# Altium footprint library cpu.PcbLib: 8 footprints
Each footprint in its own frame and in the unit in brackets; x right, y up, seen from the top. Pads: shape width x height; smd on the part's side, far side on the other; paste and mask are expansions set on the pad; w line width, h text height; cw(c..) or ccw(c..) is an arc to the next point about the centre after c.
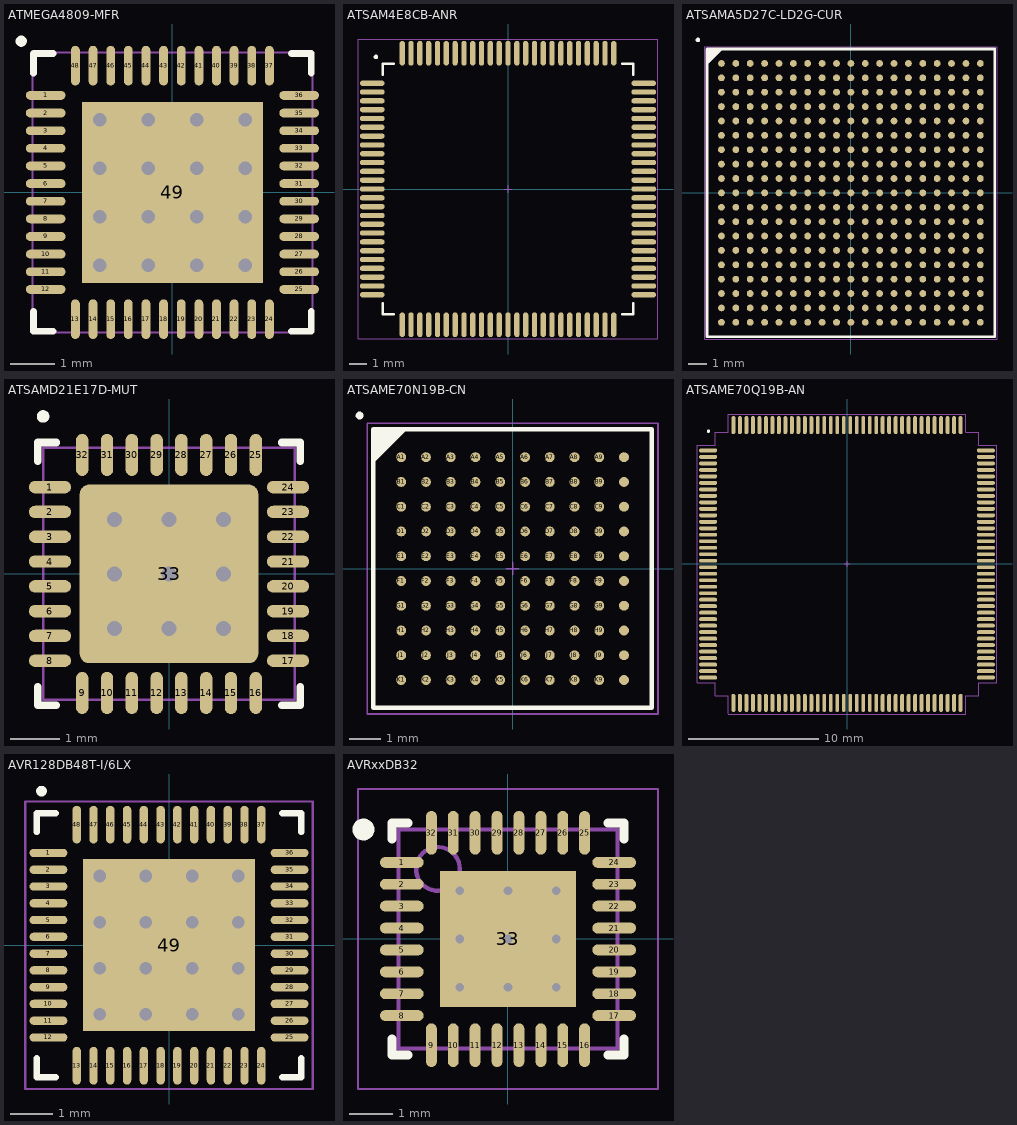
[diagram p0: the footprints below, top view; thin cyan lines are the x and y axes]

## ATMEGA4809-MFR [mm] "QFN, 48-Leads, Body 6.00x6.00mm, Pitch 0.40mm, Thermal Pad 4.10x4.10mm, IPC Medium Density"
height 0.9
pads (49):
  oval 0.9x0.2 smd: 1(-2.875,2.2) 2(-2.875,1.8) 3(-2.875,1.4) 4(-2.875,1) 5(-2.875,0.6) 6(-2.875,0.2) 7(-2.875,-0.2) 8(-2.875,-0.6) 9(-2.875,-1) 10(-2.875,-1.4) 11(-2.875,-1.8) 12(-2.875,-2.2) 25(2.875,-2.2) 26(2.875,-1.8) 27(2.875,-1.4) 28(2.875,-1) 29(2.875,-0.6) 30(2.875,-0.2) 31(2.875,0.2) 32(2.875,0.6) 33(2.875,1) 34(2.875,1.4) 35(2.875,1.8) 36(2.875,2.2)
  oval 0.2x0.9 smd: 13(-2.2,-2.875) 14(-1.8,-2.875) 15(-1.4,-2.875) 16(-1,-2.875) 17(-0.6,-2.875) 18(-0.2,-2.875) 19(0.2,-2.875) 20(0.6,-2.875) 21(1,-2.875) 22(1.4,-2.875) 23(1.8,-2.875) 24(2.2,-2.875) 37(2.2,2.875) 38(1.8,2.875) 39(1.4,2.875) 40(1,2.875) 41(0.6,2.875) 42(0.2,2.875) 43(-0.2,2.875) 44(-0.6,2.875) 45(-1,2.875) 46(-1.4,2.875) 47(-1.8,2.875) 48(-2.2,2.875)
  rect 4.1x4.1 smd: 49(0,0)
via 1.65,-1.65 diameter 0.6 hole 0.3
via 0.55,-1.65 diameter 0.6 hole 0.3
via -0.55,-1.65 diameter 0.6 hole 0.3
via -1.65,-1.65 diameter 0.6 hole 0.3
via 1.65,-0.55 diameter 0.6 hole 0.3
via 0.55,-0.55 diameter 0.6 hole 0.3
via -0.55,-0.55 diameter 0.6 hole 0.3
via -1.65,-0.55 diameter 0.6 hole 0.3
via 1.65,0.55 diameter 0.6 hole 0.3
via 0.55,0.55 diameter 0.6 hole 0.3
via -0.55,0.55 diameter 0.6 hole 0.3
via -1.65,0.55 diameter 0.6 hole 0.3
via 1.65,1.65 diameter 0.6 hole 0.3
via 0.55,1.65 diameter 0.6 hole 0.3
via -0.55,1.65 diameter 0.6 hole 0.3
via -1.65,1.65 diameter 0.6 hole 0.3
Top Overlay:
  circle w0.153: c-3.429,3.429 r0.05
  lines w0.153: -3.15,-2.7 -3.15,-3.15 -2.7,-3.15 ; -3.15,2.7 -3.15,3.15 -2.7,3.15 ; 2.7,-3.15 3.15,-3.15 3.15,-2.7 ; 2.7,3.15 3.15,3.15 3.15,2.7
Top Assembly:
  lines w0.05: -3.175,-3.175 3.175,-3.175 3.175,3.175 -3.175,3.175 -3.175,-3.175
Top Placement:
  lines w0.05: -0.2,0 0.2,0 ; 0,-0.2 0,0.2 ; -3.175,-3.175 3.175,-3.175 3.175,3.175 -3.175,3.175 -3.175,-3.175
3D body "QFN40P600X600X90_HS-49N.step": height 0.9, standoff 0, extent -3.001,-3.001 3.001,3.001

## ATSAM4E8CB-ANR [mm] "TSQFP, 100-Leads, Body 14.00x14.00mm, Pitch 0.50mm, IPC Medium Density"
height 1.6
pads (100):
  oval 1.4x0.3 smd: 1(-7.7,6) 2(-7.7,5.5) 3(-7.7,5) 4(-7.7,4.5) 5(-7.7,4) 6(-7.7,3.5) 7(-7.7,3) 8(-7.7,2.5) 9(-7.7,2) 10(-7.7,1.5) 11(-7.7,1) 12(-7.7,0.5) 13(-7.7,0) 14(-7.7,-0.5) 15(-7.7,-1) 16(-7.7,-1.5) 17(-7.7,-2) 18(-7.7,-2.5) 19(-7.7,-3) 20(-7.7,-3.5) 21(-7.7,-4) 22(-7.7,-4.5) 23(-7.7,-5) 24(-7.7,-5.5) 25(-7.7,-6) 51(7.7,-6) 52(7.7,-5.5) 53(7.7,-5) 54(7.7,-4.5) 55(7.7,-4) 56(7.7,-3.5) 57(7.7,-3) 58(7.7,-2.5) 59(7.7,-2) 60(7.7,-1.5) 61(7.7,-1) 62(7.7,-0.5) 63(7.7,0) 64(7.7,0.5) 65(7.7,1) 66(7.7,1.5) 67(7.7,2) 68(7.7,2.5) 69(7.7,3) 70(7.7,3.5) 71(7.7,4) 72(7.7,4.5) 73(7.7,5) 74(7.7,5.5) 75(7.7,6)
  oval 0.3x1.4 smd: 26(-6,-7.7) 27(-5.5,-7.7) 28(-5,-7.7) 29(-4.5,-7.7) 30(-4,-7.7) 31(-3.5,-7.7) 32(-3,-7.7) 33(-2.5,-7.7) 34(-2,-7.7) 35(-1.5,-7.7) 36(-1,-7.7) 37(-0.5,-7.7) 38(0,-7.7) 39(0.5,-7.7) 40(1,-7.7) 41(1.5,-7.7) 42(2,-7.7) 43(2.5,-7.7) 44(3,-7.7) 45(3.5,-7.7) 46(4,-7.7) 47(4.5,-7.7) 48(5,-7.7) 49(5.5,-7.7) 50(6,-7.7) 76(6,7.7) 77(5.5,7.7) 78(5,7.7) 79(4.5,7.7) 80(4,7.7) 81(3.5,7.7) 82(3,7.7) 83(2.5,7.7) 84(2,7.7) 85(1.5,7.7) 86(1,7.7) 87(0.5,7.7) 88(0,7.7) 89(-0.5,7.7) 90(-1,7.7) 91(-1.5,7.7) 92(-2,7.7) 93(-2.5,7.7) 94(-3,7.7) 95(-3.5,7.7) 96(-4,7.7) 97(-4.5,7.7) 98(-5,7.7) 99(-5.5,7.7) 100(-6,7.7)
Top Overlay:
  circle w0.154: c-7.493,7.493 r0.05
  lines w0.154: -7.112,-6.477 -7.112,-7.112 -6.477,-7.112 ; -7.112,6.477 -7.112,7.112 -6.477,7.112 ; 6.477,-7.112 7.112,-7.112 7.112,-6.477 ; 6.477,7.112 7.112,7.112 7.112,6.477
Top Assembly:
  lines w0.05: -8.509,-8.509 8.509,-8.509 8.509,8.509 -8.509,8.509 -8.509,-8.509
Top Placement:
  lines w0.05: -0.2,0 0.2,0 ; 0,-0.2 0,0.2 ; -8.509,-8.509 8.509,-8.509 8.509,8.509 -8.509,8.509 -8.509,-8.509
3D body "TSQFP50P1600X1600X160-100N.step": height 1.6, standoff 0, extent -8,-8 8,8

## ATSAMA5D27C-LD2G-CUR [mm] "BGA, 361-Leads, Body 16.00x16.00mmx1.20mm, Pitch 0.80mm"
height 1.2
pads (361):
  round 0.38 smd: A1(-7.2,7.2) A2(-6.4,7.2) A3(-5.6,7.2) A4(-4.8,7.2) A5(-4,7.2) A6(-3.2,7.2) A7(-2.4,7.2) A8(-1.6,7.2) A9(-0.8,7.2) A10(0,7.2) A11(0.8,7.2) A12(1.6,7.2) A13(2.4,7.2) A14(3.2,7.2) A15(4,7.2) A16(4.8,7.2) A17(5.6,7.2) A18(6.4,7.2) A19(7.2,7.2) B1(-7.2,6.4) B2(-6.4,6.4) B3(-5.6,6.4) B4(-4.8,6.4) B5(-4,6.4) B6(-3.2,6.4) B7(-2.4,6.4) B8(-1.6,6.4) B9(-0.8,6.4) B10(0,6.4) B11(0.8,6.4) B12(1.6,6.4) B13(2.4,6.4) B14(3.2,6.4) B15(4,6.4) B16(4.8,6.4) B17(5.6,6.4) B18(6.4,6.4) B19(7.2,6.4) C1(-7.2,5.6) C2(-6.4,5.6) C3(-5.6,5.6) C4(-4.8,5.6) C5(-4,5.6) C6(-3.2,5.6) C7(-2.4,5.6) C8(-1.6,5.6) C9(-0.8,5.6) C10(0,5.6) C11(0.8,5.6) C12(1.6,5.6) C13(2.4,5.6) C14(3.2,5.6) C15(4,5.6) C16(4.8,5.6) C17(5.6,5.6) C18(6.4,5.6) C19(7.2,5.6) D1(-7.2,4.8) D2(-6.4,4.8) D3(-5.6,4.8) D4(-4.8,4.8) D5(-4,4.8) D6(-3.2,4.8) D7(-2.4,4.8) D8(-1.6,4.8) D9(-0.8,4.8) D10(0,4.8) D11(0.8,4.8) D12(1.6,4.8) D13(2.4,4.8) D14(3.2,4.8) D15(4,4.8) D16(4.8,4.8) D17(5.6,4.8) D18(6.4,4.8) D19(7.2,4.8) E1(-7.2,4) E2(-6.4,4) E3(-5.6,4) E4(-4.8,4) E5(-4,4) E6(-3.2,4) E7(-2.4,4) E8(-1.6,4) E9(-0.8,4) E10(0,4) E11(0.8,4) E12(1.6,4) E13(2.4,4) E14(3.2,4) E15(4,4) E16(4.8,4) E17(5.6,4) E18(6.4,4) E19(7.2,4) F1(-7.2,3.2) F2(-6.4,3.2) F3(-5.6,3.2) F4(-4.8,3.2) F5(-4,3.2) F6(-3.2,3.2) F7(-2.4,3.2) F8(-1.6,3.2) F9(-0.8,3.2) F10(0,3.2) F11(0.8,3.2) F12(1.6,3.2) F13(2.4,3.2) F14(3.2,3.2) F15(4,3.2) F16(4.8,3.2) F17(5.6,3.2) F18(6.4,3.2) F19(7.2,3.2) G1(-7.2,2.4) G2(-6.4,2.4) G3(-5.6,2.4) G4(-4.8,2.4) G5(-4,2.4) G6(-3.2,2.4) G7(-2.4,2.4) G8(-1.6,2.4) G9(-0.8,2.4) G10(0,2.4) G11(0.8,2.4) G12(1.6,2.4) G13(2.4,2.4) G14(3.2,2.4) G15(4,2.4) G16(4.8,2.4) G17(5.6,2.4) G18(6.4,2.4) G19(7.2,2.4) H1(-7.2,1.6) H2(-6.4,1.6) H3(-5.6,1.6) H4(-4.8,1.6) H5(-4,1.6) H6(-3.2,1.6) H7(-2.4,1.6) H8(-1.6,1.6) H9(-0.8,1.6) H10(0,1.6) H11(0.8,1.6) H12(1.6,1.6) H13(2.4,1.6) H14(3.2,1.6) H15(4,1.6) H16(4.8,1.6) H17(5.6,1.6) H18(6.4,1.6) H19(7.2,1.6) J1(-7.2,0.8) J2(-6.4,0.8) J3(-5.6,0.8) J4(-4.8,0.8) J5(-4,0.8) J6(-3.2,0.8) J7(-2.4,0.8) J8(-1.6,0.8) J9(-0.8,0.8) J10(0,0.8) J11(0.8,0.8) J12(1.6,0.8) J13(2.4,0.8) J14(3.2,0.8) J15(4,0.8) J16(4.8,0.8) J17(5.6,0.8) J18(6.4,0.8) J19(7.2,0.8) K1(-7.2,0) K2(-6.4,0) K3(-5.6,0) K4(-4.8,0) K5(-4,0) K6(-3.2,0) K7(-2.4,0) K8(-1.6,0) K9(-0.8,0) K10(0,0) K11(0.8,0) K12(1.6,0) K13(2.4,0) K14(3.2,0) K15(4,0) K16(4.8,0) K17(5.6,0) K18(6.4,0) K19(7.2,0) L1(-7.2,-0.8) L2(-6.4,-0.8) L3(-5.6,-0.8) L4(-4.8,-0.8) L5(-4,-0.8) L6(-3.2,-0.8) L7(-2.4,-0.8) L8(-1.6,-0.8) L9(-0.8,-0.8) L10(0,-0.8) L11(0.8,-0.8) L12(1.6,-0.8) L13(2.4,-0.8) L14(3.2,-0.8) L15(4,-0.8) L16(4.8,-0.8) L17(5.6,-0.8) L18(6.4,-0.8) L19(7.2,-0.8) M1(-7.2,-1.6) M2(-6.4,-1.6) M3(-5.6,-1.6) M4(-4.8,-1.6) M5(-4,-1.6) M6(-3.2,-1.6) M7(-2.4,-1.6) M8(-1.6,-1.6) M9(-0.8,-1.6) M10(0,-1.6) M11(0.8,-1.6) M12(1.6,-1.6) M13(2.4,-1.6) M14(3.2,-1.6) M15(4,-1.6) M16(4.8,-1.6) M17(5.6,-1.6) M18(6.4,-1.6) M19(7.2,-1.6) N1(-7.2,-2.4) N2(-6.4,-2.4) N3(-5.6,-2.4) N4(-4.8,-2.4) N5(-4,-2.4) N6(-3.2,-2.4) N7(-2.4,-2.4) N8(-1.6,-2.4) N9(-0.8,-2.4) N10(0,-2.4) N11(0.8,-2.4) N12(1.6,-2.4) N13(2.4,-2.4) N14(3.2,-2.4) N15(4,-2.4) N16(4.8,-2.4) N17(5.6,-2.4) N18(6.4,-2.4) N19(7.2,-2.4) P1(-7.2,-3.2) P2(-6.4,-3.2) P3(-5.6,-3.2) P4(-4.8,-3.2) P5(-4,-3.2) P6(-3.2,-3.2) P7(-2.4,-3.2) P8(-1.6,-3.2) P9(-0.8,-3.2) P10(0,-3.2) P11(0.8,-3.2) P12(1.6,-3.2) P13(2.4,-3.2) P14(3.2,-3.2) P15(4,-3.2) P16(4.8,-3.2) P17(5.6,-3.2) P18(6.4,-3.2) P19(7.2,-3.2) R1(-7.2,-4) R2(-6.4,-4) R3(-5.6,-4) R4(-4.8,-4) R5(-4,-4) R6(-3.2,-4) R7(-2.4,-4) R8(-1.6,-4) R9(-0.8,-4) R10(0,-4) R11(0.8,-4) R12(1.6,-4) R13(2.4,-4) R14(3.2,-4) R15(4,-4) R16(4.8,-4) R17(5.6,-4) R18(6.4,-4) R19(7.2,-4) T1(-7.2,-4.8) T2(-6.4,-4.8) T3(-5.6,-4.8) T4(-4.8,-4.8) T5(-4,-4.8) T6(-3.2,-4.8) T7(-2.4,-4.8) T8(-1.6,-4.8) T9(-0.8,-4.8) T10(0,-4.8) T11(0.8,-4.8) T12(1.6,-4.8) T13(2.4,-4.8) T14(3.2,-4.8) T15(4,-4.8) T16(4.8,-4.8) T17(5.6,-4.8) T18(6.4,-4.8) T19(7.2,-4.8) U1(-7.2,-5.6) U2(-6.4,-5.6) U3(-5.6,-5.6) U4(-4.8,-5.6) U5(-4,-5.6) U6(-3.2,-5.6) U7(-2.4,-5.6) U8(-1.6,-5.6) U9(-0.8,-5.6) U10(0,-5.6) U11(0.8,-5.6) U12(1.6,-5.6) U13(2.4,-5.6) U14(3.2,-5.6) U15(4,-5.6) U16(4.8,-5.6) U17(5.6,-5.6) U18(6.4,-5.6) U19(7.2,-5.6) V1(-7.2,-6.4) V2(-6.4,-6.4) V3(-5.6,-6.4) V4(-4.8,-6.4) V5(-4,-6.4) V6(-3.2,-6.4) V7(-2.4,-6.4) V8(-1.6,-6.4) V9(-0.8,-6.4) V10(0,-6.4) V11(0.8,-6.4) V12(1.6,-6.4) V13(2.4,-6.4) V14(3.2,-6.4) V15(4,-6.4) V16(4.8,-6.4) V17(5.6,-6.4) V18(6.4,-6.4) V19(7.2,-6.4) W1(-7.2,-7.2) W2(-6.4,-7.2) W3(-5.6,-7.2) W4(-4.8,-7.2) W5(-4,-7.2) W6(-3.2,-7.2) W7(-2.4,-7.2) W8(-1.6,-7.2) W9(-0.8,-7.2) W10(0,-7.2) W11(0.8,-7.2) W12(1.6,-7.2) W13(2.4,-7.2) W14(3.2,-7.2) W15(4,-7.2) W16(4.8,-7.2) W17(5.6,-7.2) W18(6.4,-7.2) W19(7.2,-7.2)
Top Overlay:
  circle w0.153: c-8.509,8.509 r0.05
  region: -7.202,8 -8,7.202 -8,8
  lines w0.154: -8,7.202 -7.202,8 ; -8,-8 8,-8 8,8 -8,8 -8,-8
Top Assembly:
  lines w0.05: -8.128,-8.128 -8.128,8.128 8.128,8.128 8.128,-8.128 -8.128,-8.128
Top Placement:
  lines w0.05: -0.2,0 0.2,0 ; 0,-0.2 0,0.2 ; -8.128,-8.128 -8.128,8.128 8.128,8.128 8.128,-8.128 -8.128,-8.128
3D body "BGA361C80P19X19_1600X1600X120.step": height 1.2, standoff 0, extent -8,-8 8,8

## ATSAMD21E17D-MUT [mm] "QFN, 32-Leads, Body 5.00x5.00mm, Pitch 0.50mm, Thermal Pad 3.60x3.60mm, IPC Medium Density"
height 1
pads (33):
  oval 0.85x0.25 smd: 1(-2.4,1.75) 2(-2.4,1.25) 3(-2.4,0.75) 4(-2.4,0.25) 5(-2.4,-0.25) 6(-2.4,-0.75) 7(-2.4,-1.25) 8(-2.4,-1.75) 17(2.4,-1.75) 18(2.4,-1.25) 19(2.4,-0.75) 20(2.4,-0.25) 21(2.4,0.25) 22(2.4,0.75) 23(2.4,1.25) 24(2.4,1.75)
  oval 0.25x0.85 smd: 9(-1.75,-2.4) 10(-1.25,-2.4) 11(-0.75,-2.4) 12(-0.25,-2.4) 13(0.25,-2.4) 14(0.75,-2.4) 15(1.25,-2.4) 16(1.75,-2.4) 25(1.75,2.4) 26(1.25,2.4) 27(0.75,2.4) 28(0.25,2.4) 29(-0.25,2.4) 30(-0.75,2.4) 31(-1.25,2.4) 32(-1.75,2.4)
  rrect10% 3.6x3.6 smd: 33(0,0)
via 0,0 diameter 0.6 hole 0.3
via -1.1,1.1 diameter 0.6 hole 0.3
via 0,1.1 diameter 0.6 hole 0.3
via 1.1,1.1 diameter 0.6 hole 0.3
via -1.1,0 diameter 0.6 hole 0.3
via 1.1,0 diameter 0.6 hole 0.3
via -1.1,-1.1 diameter 0.6 hole 0.3
via 0,-1.1 diameter 0.6 hole 0.3
via 1.1,-1.1 diameter 0.6 hole 0.3
Top Overlay:
  circle w0.153: c-2.54,3.175 r0.05
  lines w0.153: -2.65,-2.275 -2.65,-2.65 -2.275,-2.65 ; -2.65,2.275 -2.65,2.65 -2.275,2.65 ; 2.275,-2.65 2.65,-2.65 2.65,-2.275 ; 2.275,2.65 2.65,2.65 2.65,2.275
Top Assembly:
  lines w0.05: -2.54,-2.54 2.54,-2.54 2.54,2.54 -2.54,2.54 -2.54,-2.54
Top Placement:
  lines w0.05: -0.2,0 0.2,0 ; 0,-0.2 0,0.2 ; -2.54,-2.54 2.54,-2.54 2.54,2.54 -2.54,2.54 -2.54,-2.54
3D body "QFN50P500X500X100_HS-33N.step": height 1, standoff 0, extent -2.501,-2.501 2.501,2.501

## ATSAME70N19B-CN [mm] "BGA, 100-Leads, Body 9.00x9.00mmx1.10mm, Pitch 0.80mm"
height 1.1
pads (100):
  round 0.32 smd: A1(-3.6,3.6) A2(-2.8,3.6) A3(-2,3.6) A4(-1.2,3.6) A5(-0.4,3.6) A6(0.4,3.6) A7(1.2,3.6) A8(2,3.6) A9(2.8,3.6) A10(3.6,3.6) B1(-3.6,2.8) B2(-2.8,2.8) B3(-2,2.8) B4(-1.2,2.8) B5(-0.4,2.8) B6(0.4,2.8) B7(1.2,2.8) B8(2,2.8) B9(2.8,2.8) B10(3.6,2.8) C1(-3.6,2) C2(-2.8,2) C3(-2,2) C4(-1.2,2) C5(-0.4,2) C6(0.4,2) C7(1.2,2) C8(2,2) C9(2.8,2) C10(3.6,2) D1(-3.6,1.2) D2(-2.8,1.2) D3(-2,1.2) D4(-1.2,1.2) D5(-0.4,1.2) D6(0.4,1.2) D7(1.2,1.2) D8(2,1.2) D9(2.8,1.2) D10(3.6,1.2) E1(-3.6,0.4) E2(-2.8,0.4) E3(-2,0.4) E4(-1.2,0.4) E5(-0.4,0.4) E6(0.4,0.4) E7(1.2,0.4) E8(2,0.4) E9(2.8,0.4) E10(3.6,0.4) F1(-3.6,-0.4) F2(-2.8,-0.4) F3(-2,-0.4) F4(-1.2,-0.4) F5(-0.4,-0.4) F6(0.4,-0.4) F7(1.2,-0.4) F8(2,-0.4) F9(2.8,-0.4) F10(3.6,-0.4) G1(-3.6,-1.2) G2(-2.8,-1.2) G3(-2,-1.2) G4(-1.2,-1.2) G5(-0.4,-1.2) G6(0.4,-1.2) G7(1.2,-1.2) G8(2,-1.2) G9(2.8,-1.2) G10(3.6,-1.2) H1(-3.6,-2) H2(-2.8,-2) H3(-2,-2) H4(-1.2,-2) H5(-0.4,-2) H6(0.4,-2) H7(1.2,-2) H8(2,-2) H9(2.8,-2) H10(3.6,-2) J1(-3.6,-2.8) J2(-2.8,-2.8) J3(-2,-2.8) J4(-1.2,-2.8) J5(-0.4,-2.8) J6(0.4,-2.8) J7(1.2,-2.8) J8(2,-2.8) J9(2.8,-2.8) J10(3.6,-2.8) K1(-3.6,-3.6) K2(-2.8,-3.6) K3(-2,-3.6) K4(-1.2,-3.6) K5(-0.4,-3.6) K6(0.4,-3.6) K7(1.2,-3.6) K8(2,-3.6) K9(2.8,-3.6) K10(3.6,-3.6)
Top Overlay:
  circle w0.153: c-4.945,4.945 r0.05
  region: -3.5,4.5 -4.5,3.5 -4.5,4.5
  lines w0.153: -4.5,3.5 -3.5,4.5 ; -4.5,-4.5 4.5,-4.5 4.5,4.5 -4.5,4.5 -4.5,-4.5
Top Assembly:
  lines w0.05: -4.699,-4.699 4.699,-4.699 4.699,4.699 -4.699,4.699 -4.699,-4.699
Top Placement:
  lines w0.05: -0.2,0 0.2,0 ; 0,-0.2 0,0.2 ; -4.699,-4.699 -4.699,4.699 4.699,4.699 4.699,-4.699 -4.699,-4.699
3D body "BGA100C80P10X10_900X900X110.step": height 1.1, standoff 0, extent -4.5,-4.5 4.5,4.5

## ATSAME70Q19B-AN [mm] "TSQFP, 144-Leads, Body 20.00x20.00mm, Pitch 0.50mm, IPC Medium Density"
height 1.6
pads (144):
  oval 1.4x0.3 smd: 1(-10.7,8.75) 2(-10.7,8.25) 3(-10.7,7.75) 4(-10.7,7.25) 5(-10.7,6.75) 6(-10.7,6.25) 7(-10.7,5.75) 8(-10.7,5.25) 9(-10.7,4.75) 10(-10.7,4.25) 11(-10.7,3.75) 12(-10.7,3.25) 13(-10.7,2.75) 14(-10.7,2.25) 15(-10.7,1.75) 16(-10.7,1.25) 17(-10.7,0.75) 18(-10.7,0.25) 19(-10.7,-0.25) 20(-10.7,-0.75) 21(-10.7,-1.25) 22(-10.7,-1.75) 23(-10.7,-2.25) 24(-10.7,-2.75) 25(-10.7,-3.25) 26(-10.7,-3.75) 27(-10.7,-4.25) 28(-10.7,-4.75) 29(-10.7,-5.25) 30(-10.7,-5.75) 31(-10.7,-6.25) 32(-10.7,-6.75) 33(-10.7,-7.25) 34(-10.7,-7.75) 35(-10.7,-8.25) 36(-10.7,-8.75) 73(10.7,-8.75) 74(10.7,-8.25) 75(10.7,-7.75) 76(10.7,-7.25) 77(10.7,-6.75) 78(10.7,-6.25) 79(10.7,-5.75) 80(10.7,-5.25) 81(10.7,-4.75) 82(10.7,-4.25) 83(10.7,-3.75) 84(10.7,-3.25) 85(10.7,-2.75) 86(10.7,-2.25) 87(10.7,-1.75) 88(10.7,-1.25) 89(10.7,-0.75) 90(10.7,-0.25) 91(10.7,0.25) 92(10.7,0.75) 93(10.7,1.25) 94(10.7,1.75) 95(10.7,2.25) 96(10.7,2.75) 97(10.7,3.25) 98(10.7,3.75) 99(10.7,4.25) 100(10.7,4.75) 101(10.7,5.25) 102(10.7,5.75) 103(10.7,6.25) 104(10.7,6.75) 105(10.7,7.25) 106(10.7,7.75) 107(10.7,8.25) 108(10.7,8.75)
  oval 0.3x1.4 smd: 37(-8.75,-10.7) 38(-8.25,-10.7) 39(-7.75,-10.7) 40(-7.25,-10.7) 41(-6.75,-10.7) 42(-6.25,-10.7) 43(-5.75,-10.7) 44(-5.25,-10.7) 45(-4.75,-10.7) 46(-4.25,-10.7) 47(-3.75,-10.7) 48(-3.25,-10.7) 49(-2.75,-10.7) 50(-2.25,-10.7) 51(-1.75,-10.7) 52(-1.25,-10.7) 53(-0.75,-10.7) 54(-0.25,-10.7) 55(0.25,-10.7) 56(0.75,-10.7) 57(1.25,-10.7) 58(1.75,-10.7) 59(2.25,-10.7) 60(2.75,-10.7) 61(3.25,-10.7) 62(3.75,-10.7) 63(4.25,-10.7) 64(4.75,-10.7) 65(5.25,-10.7) 66(5.75,-10.7) 67(6.25,-10.7) 68(6.75,-10.7) 69(7.25,-10.7) 70(7.75,-10.7) 71(8.25,-10.7) 72(8.75,-10.7) 109(8.75,10.7) 110(8.25,10.7) 111(7.75,10.7) 112(7.25,10.7) 113(6.75,10.7) 114(6.25,10.7) 115(5.75,10.7) 116(5.25,10.7) 117(4.75,10.7) 118(4.25,10.7) 119(3.75,10.7) 120(3.25,10.7) 121(2.75,10.7) 122(2.25,10.7) 123(1.75,10.7) 124(1.25,10.7) 125(0.75,10.7) 126(0.25,10.7) 127(-0.25,10.7) 128(-0.75,10.7) 129(-1.25,10.7) 130(-1.75,10.7) 131(-2.25,10.7) 132(-2.75,10.7) 133(-3.25,10.7) 134(-3.75,10.7) 135(-4.25,10.7) 136(-4.75,10.7) 137(-5.25,10.7) 138(-5.75,10.7) 139(-6.25,10.7) 140(-6.75,10.7) 141(-7.25,10.7) 142(-7.75,10.7) 143(-8.25,10.7) 144(-8.75,10.7)
Top Overlay:
  circle w0.153: c-10.678,10.231 r0.05
Top Assembly:
  lines w0.05: -11.557,-9.144 -10.16,-9.144 -10.16,-10.16 -9.144,-10.16 -9.144,-11.557 9.144,-11.557 9.144,-10.16 10.16,-10.16 10.16,-9.144 11.557,-9.144 11.557,9.144 10.16,9.144 10.16,10.16 9.144,10.16 9.144,11.557 -9.144,11.557 -9.144,10.16 -10.16,10.16 -10.16,9.144 -11.557,9.144 -11.557,-9.144
Top Placement:
  lines w0.05: -0.2,0 0.2,0 ; 0,-0.2 0,0.2 ; -11.557,-9.144 -11.557,9.144 -10.16,9.144 -10.16,10.16 -9.144,10.16 -9.144,11.557 9.144,11.557 9.144,10.16 10.16,10.16 10.16,9.144 11.557,9.144 11.557,-9.144 10.16,-9.144 10.16,-10.16 9.144,-10.16 9.144,-11.557 -9.144,-11.557 -9.144,-10.16 -10.16,-10.16 -10.16,-9.144 -11.557,-9.144
3D body "TSQFP50P2200X2200X160-144N.step": height 1.6, standoff 0, extent -11,-11 11,11

## AVR128DB48T-I/6LX [mm] "QFN, 48-Leads, Body 6.00x6.00mm, Pitch 0.40mm, Thermal Pad 4.10x4.10mm, IPC Medium Density"
height 0.9
pads (49):
  oval 0.9x0.2 smd: 1(-2.875,2.2) 2(-2.875,1.8) 3(-2.875,1.4) 4(-2.875,1) 5(-2.875,0.6) 6(-2.875,0.2) 7(-2.875,-0.2) 8(-2.875,-0.6) 9(-2.875,-1) 10(-2.875,-1.4) 11(-2.875,-1.8) 12(-2.875,-2.2) 25(2.875,-2.2) 26(2.875,-1.8) 27(2.875,-1.4) 28(2.875,-1) 29(2.875,-0.6) 30(2.875,-0.2) 31(2.875,0.2) 32(2.875,0.6) 33(2.875,1) 34(2.875,1.4) 35(2.875,1.8) 36(2.875,2.2)
  oval 0.2x0.9 smd: 13(-2.2,-2.875) 14(-1.8,-2.875) 15(-1.4,-2.875) 16(-1,-2.875) 17(-0.6,-2.875) 18(-0.2,-2.875) 19(0.2,-2.875) 20(0.6,-2.875) 21(1,-2.875) 22(1.4,-2.875) 23(1.8,-2.875) 24(2.2,-2.875) 37(2.2,2.875) 38(1.8,2.875) 39(1.4,2.875) 40(1,2.875) 41(0.6,2.875) 42(0.2,2.875) 43(-0.2,2.875) 44(-0.6,2.875) 45(-1,2.875) 46(-1.4,2.875) 47(-1.8,2.875) 48(-2.2,2.875)
  rect 4.1x4.1 smd: 49(0,0)
via 1.65,-1.65 diameter 0.6 hole 0.3
via 0.55,-1.65 diameter 0.6 hole 0.3
via -0.55,-1.65 diameter 0.6 hole 0.3
via -1.65,-1.65 diameter 0.6 hole 0.3
via 1.65,-0.55 diameter 0.6 hole 0.3
via 0.55,-0.55 diameter 0.6 hole 0.3
via -0.55,-0.55 diameter 0.6 hole 0.3
via -1.65,-0.55 diameter 0.6 hole 0.3
via 1.65,0.55 diameter 0.6 hole 0.3
via 0.55,0.55 diameter 0.6 hole 0.3
via -0.55,0.55 diameter 0.6 hole 0.3
via -1.65,0.55 diameter 0.6 hole 0.3
via 1.65,1.65 diameter 0.6 hole 0.3
via 0.55,1.65 diameter 0.6 hole 0.3
via -0.55,1.65 diameter 0.6 hole 0.3
via -1.65,1.65 diameter 0.6 hole 0.3
Top Overlay:
  circle w0.153: c-3.04,3.675 r0.05
  lines w0.153: -3.15,-2.7 -3.15,-3.15 -2.7,-3.15 ; -3.15,2.7 -3.15,3.15 -2.7,3.15 ; 2.7,-3.15 3.15,-3.15 3.15,-2.7 ; 2.7,3.15 3.15,3.15 3.15,2.7
Top Assembly:
  lines w0.05: -3.429,-3.429 3.429,-3.429 3.429,3.429 -3.429,3.429 -3.429,-3.429
Top Placement:
  lines w0.05: -0.2,0 0.2,0 ; 0,-0.2 0,0.2 ; -3.429,-3.429 -3.429,3.429 3.429,3.429 3.429,-3.429 -3.429,-3.429
3D body "QFN40P600X600X90_HS-49N.step": height 0.9, standoff 0, extent -3.001,-3.001 3.001,3.001

## AVRxxDB32 [mm] "QFN, 32-Leads, Body 5.00x5.00mm, Pitch 0.50mm, Thermal Pad 3.10x3.10mm, IPC Low Density"
height 0.8
pads (33):
  oval 1x0.25 smd: 1(-2.425,1.75) 2(-2.425,1.25) 3(-2.425,0.75) 4(-2.425,0.25) 5(-2.425,-0.25) 6(-2.425,-0.75) 7(-2.425,-1.25) 8(-2.425,-1.75) 17(2.425,-1.75) 18(2.425,-1.25) 19(2.425,-0.75) 20(2.425,-0.25) 21(2.425,0.25) 22(2.425,0.75) 23(2.425,1.25) 24(2.425,1.75)
  oval 0.25x1 smd: 9(-1.75,-2.425) 10(-1.25,-2.425) 11(-0.75,-2.425) 12(-0.25,-2.425) 13(0.25,-2.425) 14(0.75,-2.425) 15(1.25,-2.425) 16(1.75,-2.425) 25(1.75,2.425) 26(1.25,2.425) 27(0.75,2.425) 28(0.25,2.425) 29(-0.25,2.425) 30(-0.75,2.425) 31(-1.25,2.425) 32(-1.75,2.425)
  rect 3.1x3.1 smd: 33(0,0)
via 1.1,-1.1 diameter 0.5 hole 0.2
via 0,-1.1 diameter 0.5 hole 0.2
via -1.1,-1.1 diameter 0.5 hole 0.2
via 1.1,0 diameter 0.5 hole 0.2
via 0,0 diameter 0.5 hole 0.2
via -1.1,0 diameter 0.5 hole 0.2
via 1.1,1.1 diameter 0.5 hole 0.2
via 0,1.1 diameter 0.5 hole 0.2
via -1.1,1.1 diameter 0.5 hole 0.2
Top Overlay:
  circle w0.25: c-3.3,2.5 r0.125
  lines w0.2: -2.65,-2.275 -2.65,-2.65 -2.275,-2.65 ; -2.65,2.275 -2.65,2.65 -2.275,2.65 ; 2.275,-2.65 2.65,-2.65 2.65,-2.275 ; 2.275,2.65 2.65,2.65 2.65,2.275
Mechanical 13:
  circle w0.1: c-1.6,1.6 r0.5
  lines w0.1: -2.5,-2.5 2.5,-2.5 2.5,2.5 -2.5,2.5 -2.5,-2.5
Mechanical 15:
  lines w0.05: -3.425,-3.425 3.425,-3.425 3.425,3.425 -3.425,3.425 -3.425,-3.425
  lines w0.1: -0.5,0 0.5,0 ; 0,-0.5 0,0.5
3D body "QFN50P500X500X80_HS-33M.step": height 0.8, standoff 0, extent -2.501,-2.501 2.501,2.501